# Altium schematic symbol library Schlib1.SchLib: 168 symbols (part 4 of 4)
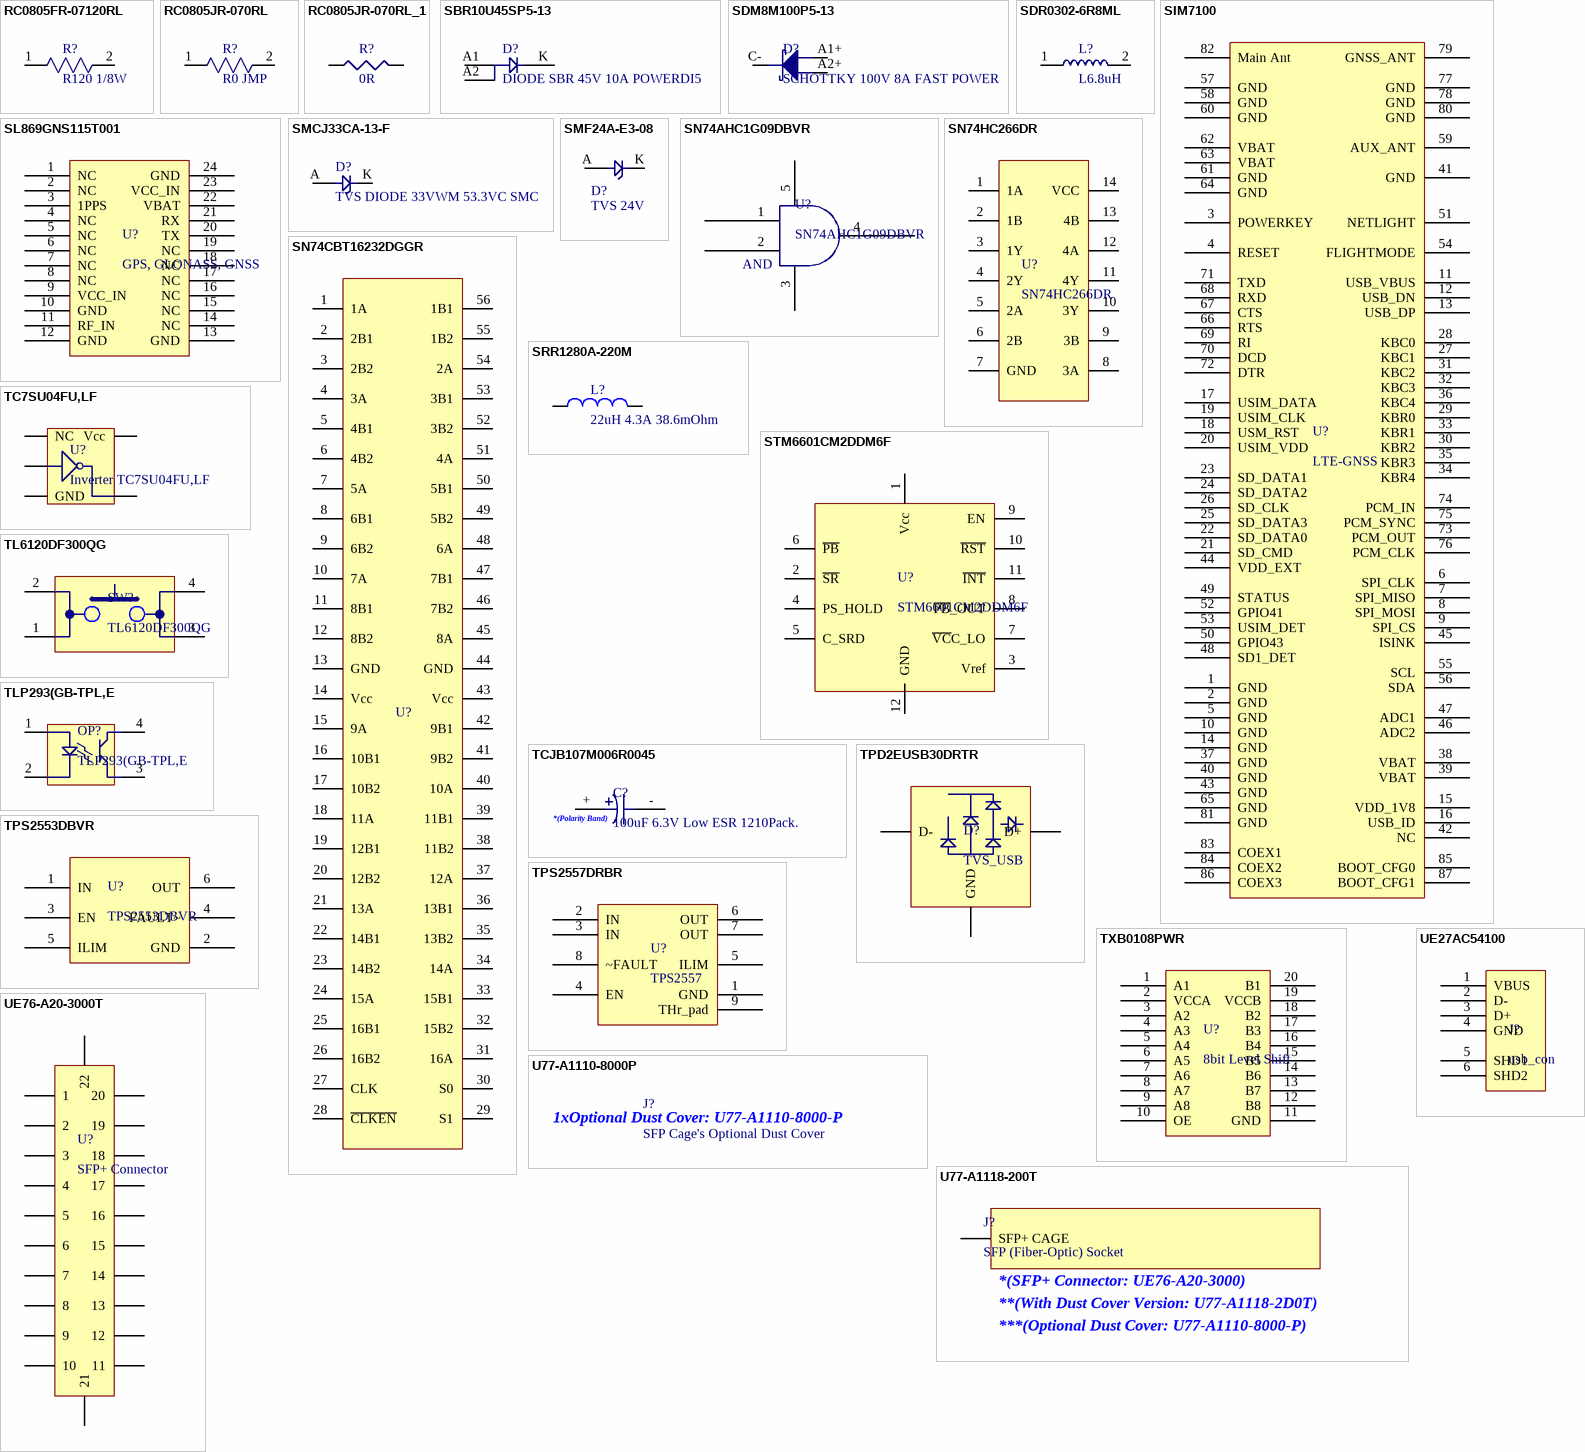
[diagram p8: symbols RC0805FR-07120RL to UE76-A20-3000T]

## STM6601CM2DDM6F
designator U?
IC SUPERVISOR 3.1V 12TDFN; Manufacturer: STMicroelectronics; Output: Open Drain or Open Collector; Reset: Active Low; Reset Timeout: 240 ms Minimum; Supplier 1: Digi-Key; Manufacturer Part Number: STM6601CM2DDM6F; RoHS: RoHS Compliant; Category: Integrated Circuits (ICs); Stock 1: 3614; Pricing 1: 1=1.56, 10=1.392, 100=1.085, 500=0.8963, 1000=0.70761 (USD); Packaging: Cut Tape (CT); Part Status: Active; Type: Smart ON/OFF Controller; Voltage - Threshold: 3.1V; Operating Temperature: -40°C ~ 85°C (TA); Mounting Type: Surface Mount; Package / Case: 12-WFDFN; Supplier Device Package: 12-TDFN (2x3); Base Part Number: STM6601; ComponentLink1URL: http://www.st.com/content/ccc/resource/technical/document/datasheet/1f/9e/3b/43/ec/04/44/71/CD00226957.pdf/files/CD00226957.pdf/jcr:content/translations/en.CD00226957.pdf; ComponentLink1Description: http://www.st.com/content/ccc/resource/technical/document/datasheet/1f/9e/3b/43/ec/04/44/71/CD00226957.pdf/files/CD00226957.pdf/jcr:content/translations/en.CD00226957.pdf; Supplier Part Number 1: 497-10132-1-ND
footprint STM6601CM2DDM6F_SON50P200X80-12N (SON, 12-Leads, Body 3.00x2.00mm, Pitch 0.50mm, IPC Medium Density)
pins: 1 Vcc, 2 ~{SR}, 3 Vref, 4 PS_HOLD, 5 C_SRD, 6 ~{PB}, 7 ~{VC}C_LO, 8 ~{PB}_OUT, 9 EN, 10 ~{RST}, 11 ~{INT}, 12 GND

## TC7SU04FU,LF
designator U?, comment Inverter TC7SU04FU,LF
IC INVERTER HS C2MOS SSOP5; Manufacturer: Toshiba Semiconductor and Storage; Number of Circuits: 1; Voltage - Supply: 2 V ~ 6 V; Current - Quiescent (Max): 1µA; Current - Output High, Low: 2.6mA, 2.6mA; Logic Level - Low: 0.3 V ~ 1.2 V; Logic Level - High: 1.7 V ~ 4.8 V; Max Propagation Delay @ V, Max CL: 17ns @ 6V, 50pF; Supplier 1: Digi-Key; Manufacturer Part Number: TC7SU04FU,LF; RoHS: RoHS Compliant; Category: Integrated Circuits (ICs); Stock 1: 4395; Pricing 1: 1=0.46, 10=0.334, 25=0.2596, 100=0.1965, 250=0.13904, 500=0.11124, 1000=0.08528 (USD); Packaging: Cut Tape (CT); Part Status: Active; Logic Type: Inverter; Number of Inputs: 1; Features: -; Operating Temperature: -40°C ~ 85°C; Mounting Type: Surface Mount; Supplier Device Package: USV; Package / Case: 5-TSSOP, SC-70-5, SOT-353; ComponentLink1URL: http://toshiba.semicon-storage.com/info/docget.jsp?did=20190&prodName=TC7SU04FU; ComponentLink1Description: http://toshiba.semicon-storage.com/info/docget.jsp?did=20190&prodName=TC7SU04FU; Supplier Part Number 1: TC7SU04FULFCT-ND
footprint TC7SU04FU,LF_SOP127P600-8N (Inverter TC7SU04FU,LF)
pins: 1 NC, 2 IN_A, 3 GND, 4 OUT_Y, 5 Vcc

## TCJB107M006R0045
designator C?, comment 100uF 6.3V Low ESR 1210Pack.
CAP TANT POLY 100UF 6.3V 1210; Manufacturer: AVX Corporation; Manufacturer Part Number: TCJB107M006R0045; Manufacturer Size Code: B; Tolerance: ±20%; Type: Molded; ESR (Equivalent Series Resistance): 45 mOhm; Lifetime @ Temp.: 2000 Hrs @ 105°C; Notification: Current market demand for these product types have resulted in fluctuating and extending lead times. Lead times may differ.; Supplier 1: Digi-Key; RoHS: RoHS Compliant; Category: Capacitors; Stock 1: 7829; Pricing 1: 1=1.11, 10=0.844, 100=0.6036, 500=0.4673, 1000=0.4024 (USD); Packaging: Cut Tape (CT); Part Status: Active; Operating Temperature: -55°C ~ 105°C; Mounting Type: Surface Mount; Package / Case: 1411 (3528 Metric), 1210; Size / Dimension: 0.138" L x 0.110" W (3.50mm x 2.80mm); Height - Seated (Max): 0.083" (2.10mm); Lead Spacing: -; Ratings: -; Features: General Purpose; ComponentLink1URL: http://datasheets.avx.com/TCJ.pdf; ComponentLink1Description: http://datasheets.avx.com/TCJ.pdf; Supplier Part Number 1: 478-4711-1-ND
footprint C1210_Original3D (Chip Capacitor, 2-Leads, Body 3.50x2.80mm, IPC Medium Density)
pins: + Anode (+), - Cathode (-)
text: *(Polarity Band)

## TL6120DF300QG
designator SW?
SWITCH TACTILE SPST-NO 0.05A 50V; Manufacturer: E-Switch; Switch Function: Off-Mom; Contact Rating @ Voltage: 0.05A @ 50VDC; Actuator Type: Standard; Actuator Height off PCB, Vertical: 10.00mm; Actuator Orientation: Top Actuated; Outline: 7.40mm x 7.40mm; Illumination: Non-Illuminated; Operating Force: 300gf; Actuator Material: Polyamide (PA), Nylon; Switch Travel: 0.50mm; Mechanical Life: 500,000 Cycles; Supplier 1: Digi-Key; Manufacturer Part Number: TL6120DF300QG; RoHS: RoHS Compliant; Category: Switches; Stock 1: 11822; Pricing 1: 1=0.87, 10=0.834, 25=0.7864, 50=0.6922, 100=0.6292 (USD); Packaging: Digi-Reel®; Part Status: Active; Circuit: SPST-NO; Mounting Type: Surface Mount; Actuator Length, Right Angle: -; Termination Style: Gull Wing; Illumination Type, Color: -; Illumination Voltage (Nominal): -; Ingress Protection: -; Features: -; Operating Temperature: -40°C ~ 85°C; ComponentLink1URL: http://spec_sheets.e-switch.com/specs/T351506.pdf; ComponentLink1Description: http://spec_sheets.e-switch.com/specs/T351506.pdf; Supplier Part Number 1: EG4356DKR-ND
footprint Tactile Switch_TL6120DF300QG_SOP400P1000X380-4N (SOP, 4-Leads, Body 7.40x7.40mm, Pitch 4.00mm, IPC Medium Density)
pins: 1, 2, 3, 4

## TLP293(GB-TPL,E
designator OP?
OPTOISOLATOR 3.75KV TRANS 4-SO; Manufacturer: Toshiba Semiconductor and Storage; Number of Channels: 1; Voltage - Isolation: 3750Vrms; Current Transfer Ratio (Min): 100% @ 5mA; Current Transfer Ratio (Max): 600% @ 5mA; Turn On / Turn Off Time (Typ): 3µs, 3µs; Rise / Fall Time (Typ): 2µs, 3µs; Input Type: DC; Output Type: Transistor; Voltage - Output (Max): 80V; Current - Output / Channel: 50mA; Voltage - Forward (Vf) (Typ): 1.25V; Vce Saturation (Max): 300mV; Supplier 1: Digi-Key; Manufacturer Part Number: TLP293(GB-TPL,E; RoHS: RoHS Compliant; Category: Isolators; Stock 1: 33505; Pricing 1: 1=0.52, 10=0.377, 25=0.308, 100=0.2464, 250=0.20792, 500=0.1771, 1000=0.1386 (USD); Packaging: Cut Tape (CT); Current - DC Forward (If) (Max): 50mA; Operating Temperature: -55°C ~ 125°C; Mounting Type: Surface Mount; Package / Case: 4-SOIC (0.179", 4.55mm); Supplier Device Package: 4-SO; ComponentLink1URL: https://toshiba.semicon-storage.com/info/docget.jsp?did=14419&prodName=TLP293; ComponentLink1Description: https://toshiba.semicon-storage.com/info/docget.jsp?did=14419&prodName=TLP293; Supplier Part Number 1: TLP293(GB-TPLECT-ND
footprint TLP293-SO4
pins: 1 +, 2 -, 3 E, 4 C

## TPD2EUSB30DRTR
designator D?, comment TVS_USB
TVS DIODE 5.5VWM 8VC SOT3; Manufacturer: Texas Instruments; Manufacturer Part Number: TPD2EUSB30DRTR; Type: Steering (Rail to Rail); Bidirectional Channels: 2; Voltage - Reverse Standoff (Typ): 5.5V (Max); Voltage - Breakdown (Min): 7V; Voltage - Clamping (Max) @ Ipp: 8V; Current - Peak Pulse (10/1000µs): 1A (8/20µs); Power - Peak Pulse: 45W; Power Line Protection: Yes; Supplier 1: Digi-Key; RoHS: RoHS Compliant; Category: Circuit Protection; Stock 1: 93541; Pricing 1: 1=0.58, 10=0.495, 100=0.3699, 500=0.29056, 1000=0.224 (USD); Packaging: Cut Tape (CT); Unidirectional Channels: -; Applications: General Purpose; Capacitance @ Frequency: -; Operating Temperature: -40°C ~ 85°C (TA); Mounting Type: Surface Mount; Package / Case: SOT-3; Supplier Device Package: SOT-3; ComponentLink1URL: http://www.ti.com/lit/ds/symlink/tpd2eusb30.pdf; ComponentLink1Description: http://www.ti.com/lit/ds/symlink/tpd2eusb30.pdf; Supplier Part Number 1: 296-25509-1-ND
footprint SOT3_SOTFL35P100X50-3N (SOTFL, 3-Leads, Body 1.00x1.00mm, Pitch 0.35mm, IPC Medium Density)
pins: D+, D-, GND

## TPS2553DBVR
designator U?
IC PWR DIST SWITCH ADJ SOT23-6; Manufacturer: Texas Instruments; Switch Type: General Purpose; Number of Outputs: 1; Ratio - Input:Output: 1:1; Output Configuration: High Side; Output Type: N-Channel; Interface: On/Off; Voltage - Load: 2.5 V ~ 6.5 V; Voltage - Supply (Vcc/Vdd): Not Required; Current - Output (Max): 1.5A; Rds On (Typ): 85 mOhm; Input Type: Non-Inverting; Fault Protection: Current Limiting (Adjustable), Over Temperature, UVLO; Supplier 1: Digi-Key; Manufacturer Part Number: TPS2553DBVR; RoHS: RoHS Compliant; Category: Integrated Circuits (ICs); Stock 1: 20525; Pricing 1: 1=1.94, 10=1.742, 100=1.3972, 500=1.1484, 1000=0.95062 (USD); Packaging: Cut Tape (CT); Features: Slew Rate Controlled, Status Flag; Operating Temperature: -40°C ~ 150°C (TJ); Package / Case: SOT-23-6; Supplier Device Package: SOT-23-6; ComponentLink1URL: http://www.ti.com/lit/ds/symlink/tps2552.pdf; ComponentLink1Description: http://www.ti.com/lit/ds/symlink/tps2552.pdf; Supplier Part Number 1: 296-32464-1-ND
footprint PDSO6
pins: 1 IN, 2 GND, 3 EN, 4 FAULT~, 5 ILIM, 6 OUT

## TPS2557DRBR
designator U?, comment TPS2557
IC PWR DIST SWITCH ADJ 8SON; Manufacturer: Texas Instruments; Manufacturer Part Number: TPS2557DRBR; Switch Type: General Purpose; Number of Outputs: 1; Ratio - Input:Output: 1:1; Output Configuration: High Side; Output Type: N-Channel; Interface: On/Off; Voltage - Load: 2.5 V ~ 6.5 V; Voltage - Supply (Vcc/Vdd): Not Required; Current - Output (Max): 5A; Rds On (Typ): 22 mOhm; Input Type: Non-Inverting; Fault Protection: Current Limiting (Adjustable), Over Temperature, UVLO; Supplier 1: Digi-Key; RoHS: RoHS Compliant; Category: Integrated Circuits (ICs); Stock 1: 6252; Pricing 1: 1=2.46, 10=2.211, 100=1.7739, 500=1.458, 1000=1.0125 (USD); Packaging: Cut Tape (CT); Features: Slew Rate Controlled, Status Flag; Operating Temperature: -40°C ~ 125°C (TJ); Package / Case: 8-VDFN Exposed Pad; Supplier Device Package: 8-SON Exposed Pad (3x3); ComponentLink1URL: http://www.ti.com/lit/ds/symlink/tps2557.pdf; ComponentLink1Description: http://www.ti.com/lit/ds/symlink/tps2557.pdf; Supplier Part Number 1: 296-37669-1-ND
footprint PVSON-8
pins: 1 GND, 2 IN, 3 IN, 4 EN, 5 ILIM, 6 OUT, 7 OUT, 8 ~FAULT, 9 THr_pad

## TXB0108PWR
designator U?, comment 8bit Level Shift
IC 8-BIT TRNSTR 15KV ESD 20TSSOP; Manufacturer: Texas Instruments; Manufacturer Part Number: TXB0108PWR; Translator Type: Voltage Level; Channel Type: Bidirectional; Number of Circuits: 1; Channels per Circuit: 8; Voltage - VCCA: 1.2 V ~ 3.6 V; Voltage - VCCB: 1.65 V ~ 5.5 V; Output Type: Tri-State, Non-Inverted; Data Rate: 100Mbps; Supplier 1: Digi-Key; RoHS: RoHS Compliant; Category: Integrated Circuits (ICs); Stock 1: 26395; Pricing 1: 1=1.88, 10=1.693, 100=1.3578, 500=1.116, 1000=0.775 (USD); Packaging: Cut Tape (CT); Part Status: Active; Input Signal: -; Output Signal: -; Operating Temperature: -40°C ~ 85°C (TA); Features: Auto-Direction Sensing; Mounting Type: Surface Mount; Package / Case: 20-TSSOP (0.173", 4.40mm Width); Supplier Device Package: 20-TSSOP; ComponentLink1URL: http://www.ti.com/lit/ds/symlink/txb0108.pdf; ComponentLink1Description: http://www.ti.com/lit/ds/symlink/txb0108.pdf; Supplier Part Number 1: 296-21527-1-ND
footprint PW-SOP20
pins: 1 A1, 2 VCCA, 3 A2, 4 A3, 5 A4, 6 A5, 7 A6, 8 A7, 9 A8, 10 OE, 11 GND, 12 B8, 13 B7, 14 B6, 15 B5, 16 B4, 17 B3, 18 B2, 19 VCCB, 20 B1

## U77-A1110-8000P
designator J?, comment SFP Cage's Optional Dust Cover
CONN SFP DUST COVER - PLASTIC; Manufacturer: Amphenol Commercial Products; Manufacturer Part Number: U77-A1110-8000P; Accessory Type: Cap (Cover), Dust; Supplier 1: Digi-Key; RoHS: RoHS Compliant; Category: Connectors, Interconnects; Stock 1: 16535; Pricing 1: 1=0.13, 10=0.123, 25=0.0912, 50=0.0784, 100=0.0757, 250=0.06524, 500=0.06264, 1000=0.05481, 2500=0.04959 (USD); Part Status: Active; For Use With/Related Products: SFP Cage; ComponentLink1URL: https://www.amphenolcanada.com/ProductSearch/drawings/AC/U77A11108000P.pdf; ComponentLink1Description: https://www.amphenolcanada.com/ProductSearch/drawings/AC/U77A11108000P.pdf; Supplier Part Number 1: U77-A1110-8000P-ND
text: 1xOptional Dust Cover: U77-A1110-8000-P

## U77-A1118-200T
designator J?, comment SFP (Fiber-Optic) Socket
CONN SFP SGL CAGE PRESSFIT NICKL; Manufacturer: Amphenol Commercial Products; Manufacturer Part Number: U77-A1118-200T; Supplier 1: Digi-Key; RoHS: RoHS Compliant; Category: Connectors, Interconnects; Stock 1: 15237; Pricing 1: 1=1.63, 10=1.475, 25=1.3844, 50=1.3242 (USD); Packaging: Cut Tape (CT); Part Status: Active; Connector Style: Cage; Connector Type: SFP; Number of Positions: -; Mounting Type: Through Hole, Right Angle; Termination: Press-Fit; Features: EMI Shielded; Contact Finish: -; Contact Finish Thickness: -; ComponentLink1URL: https://www.amphenolcanada.com/ProductSearch/drawings/AC/U77A1118xx0x.pdf; ComponentLink1Description: https://www.amphenolcanada.com/ProductSearch/drawings/AC/U77A1118xx0x.pdf; Supplier Part Number 1: U77-A1118-200TCT-ND
footprint SFP+20_CAGE
pins: DH SFP+ CAGE
text: *(SFP+ Connector: UE76-A20-3000); **(With Dust Cover Version: U77-A1118-2D0T); ***(Optional Dust Cover: U77-A1110-8000-P)

## UE27AC54100
designator J?, comment usb_con
CONN RCPT USB TYPE A R/A GOLD; Manufacturer: Amphenol Commercial Products; Manufacturer Part Number: UE27AC54100; Connector Type: USB - A; Number of Contacts: 4; Gender: Receptacle; Specifications: USB 2.0; Supplier 1: Digi-Key; RoHS: RoHS Compliant; Category: Connectors, Interconnects; Stock 1: 20642; Pricing 1: 1=0.4, 10=0.378, 25=0.3404, 50=0.3024, 100=0.2898, 250=0.2646, 500=0.252, 1000=0.2079, 2500=0.189 (USD); Packaging: Tray; Mounting Type: Through Hole, Right Angle, Horizontal; Features: Board Guide; Ingress Protection: -; ComponentLink1URL: https://www.amphenolcanada.com/ProductSearch/drawings/AC/UE27ACX4X0X.pdf; ComponentLink1Description: https://www.amphenolcanada.com/ProductSearch/drawings/AC/UE27ACX4X0X.pdf; Supplier Part Number 1: UE27AC54100-ND
footprint USB_typeA
pins: 1 VBUS, 2 D-, 3 D+, 4 GND, 5 SHD1, 6 SHD2

## UE76-A20-3000T
designator U?, comment SFP+ Connector
CONN SFP+ RCPT 20PS R/A SMD GOLD; Manufacturer: Amphenol Commercial Products; Manufacturer Part Number: UE76-A20-3000T; Connector Style: Receptacle; Number of Positions: 20; Supplier 1: Digi-Key; RoHS: RoHS Compliant; Category: Connectors, Interconnects; Stock 1: 11451; Pricing 1: 1=1.21, 10=1.068, 25=1.0052, 50=0.9632, 100=0.9213, 250=0.83756 (USD); Packaging: Cut Tape (CT); Part Status: Active; Connector Type: SFP+; Mounting Type: Surface Mount, Right Angle; Termination: Solder; Features: Board Guide; Contact Finish: Gold; Contact Finish Thickness: 30.0µin (0.76µm); ComponentLink1URL: https://media.digikey.com/pdf/Data%20Sheets/Amphenol%20PDFs/Ux76-A20-x00xx.pdf; ComponentLink1Description: https://media.digikey.com/pdf/Data%20Sheets/Amphenol%20PDFs/Ux76-A20-x00xx.pdf; Supplier Part Number 1: UE76-A20-3000TCT-ND
footprint SFP+20_Connector
pins: 1, 2, 3, 4, 5, 6, 7, 8, 9, 10, 11, 12, 13, 14, 15, 16, 17, 18, 19, 20, 21, 22

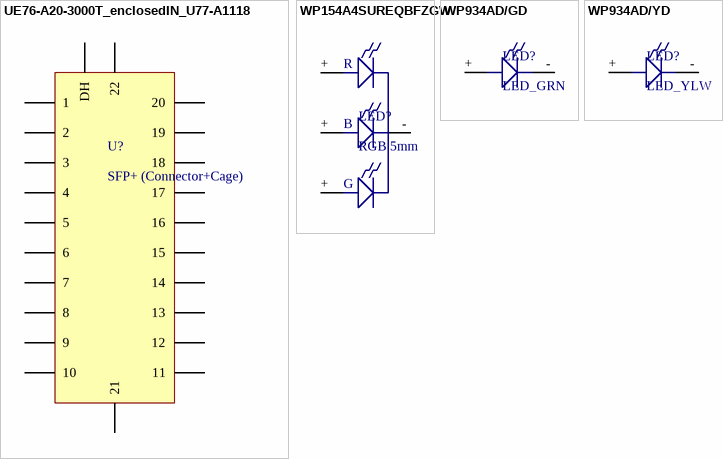
[diagram p5: symbols UE76-A20-3000T_enclosedIN_U77-A1118 to WP934AD/YD]

## UE76-A20-3000T_enclosedIN_U77-A1118
designator U?, comment SFP+ (Connector+Cage)
CONN SFP+ RCPT 20PS R/A SMD GOLD; Manufacturer: Amphenol Commercial Products; Manufacturer Part Number: UE76-A20-3000T; Connector Style: Receptacle; Number of Positions: 20; Supplier 1: Digi-Key; RoHS: RoHS Compliant; Category: Connectors, Interconnects; Stock 1: 11451; Pricing 1: 1=1.21, 10=1.068, 25=1.0052, 50=0.9632, 100=0.9213, 250=0.83756 (USD); Packaging: Cut Tape (CT); Part Status: Active; Connector Type: SFP+; Mounting Type: Surface Mount, Right Angle; Termination: Solder; Features: Board Guide; Contact Finish: Gold; Contact Finish Thickness: 30.0µin (0.76µm); ComponentLink1URL: https://media.digikey.com/pdf/Data%20Sheets/Amphenol%20PDFs/Ux76-A20-x00xx.pdf; ComponentLink1Description: https://media.digikey.com/pdf/Data%20Sheets/Amphenol%20PDFs/Ux76-A20-x00xx.pdf; Supplier Part Number 1: UE76-A20-3000TCT-ND
footprint SFP+20_CAGE + Connector
pins: 1, 2, 3, 4, 5, 6, 7, 8, 9, 10, 11, 12, 13, 14, 15, 16, 17, 18, 19, 20, 21, 22, DH

## WP154A4SUREQBFZGW
designator LED?, comment RGB 5mm
LED RGB DIFF 5MM ROUND T/H; Manufacturer: Kingbright; Manufacturer Part Number: WP154A4SUREQBFZGW; Color: Red, Green, Blue (RGB); Lens Color: White; Lens Transparency: Diffused; Millicandela Rating: 250mcd Red, 1300mcd Green, 500mcd Blue; Lens Style/Size: Round with Domed Top, 5mm (T-1 3/4), 5.00mm; Voltage - Forward (Vf) (Typ): 1.9V Red, 3.3V Green, 3.3V Blue; Current - Test: 20mA Red, 20mA Green, 20mA Blue; Viewing Angle: 60°; Wavelength - Dominant: 630nm Red, 525nm Green, 465nm Blue; Wavelength - Peak: 640nm Red, 515nm Green, 460nm Blue; Supplier 1: Digi-Key; RoHS: RoHS Compliant; Category: Optoelectronics; Stock 1: 10100; Pricing 1: 1=1.78, 10=1.575, 25=1.1684, 100=1.016, 250=0.9144, 500=0.8128, 1000=0.6985, 2500=0.6604, 5000=0.635 (USD); Packaging: Bulk; Mounting Type: Through Hole; Features: -; Package / Case: Radial - 4 Leads; Supplier Device Package: T-1 3/4; Size / Dimension: -; Height (Max): 8.60mm; ComponentLink1URL: http://www.kingbrightusa.com/images/catalog/SPEC/WP154A4SUREQBFZGW.pdf; ComponentLink1Description: http://www.kingbrightusa.com/images/catalog/SPEC/WP154A4SUREQBFZGW.pdf; Supplier Part Number 1: 754-1492-ND
pins: + 1, + 3, + 4, - 2
text: R; B; G

## WP934AD/GD
designator LED?, comment LED_GRN
GREEN RIGHT ANGLE LED INDICATOR; Manufacturer: Kingbright; Manufacturer Part Number: WP934AD/GD; Wavelength - Peak: 568nm; Configuration: Single; Current: 25mA; Millicandela Rating: 25mcd; Viewing Angle: 40°; Lens Type: Diffused, Tinted; Lens Style/Size: Round with Domed Top, 2.90mm; Voltage Rating: 2V; Supplier 1: Digi-Key; RoHS: RoHS Compliant; Category: Optoelectronics; Stock 1: 100; Pricing 1: 1=0.41, 10=0.294, 25=0.24, 100=0.192, 250=0.162, 500=0.138, 1000=0.108 (USD); Packaging: *; Color: Green; Mounting Type: *; ComponentLink1URL: http://www.kingbrightusa.com/images/catalog/SPEC/WP934AD-GD.pdf; ComponentLink1Description: http://www.kingbrightusa.com/images/catalog/SPEC/WP934AD-GD.pdf; Supplier Part Number 1: 754-1986-ND
pins: + 1, - 2

## WP934AD/YD
designator LED?, comment LED_YLW
YELLOW RIGHT ANGLE LED INDICATOR; Manufacturer: Kingbright; Manufacturer Part Number: WP934AD/YD; Wavelength - Peak: 588nm; Configuration: Single; Current: 30mA; Millicandela Rating: 15mcd; Viewing Angle: 40°; Lens Type: Diffused, Tinted; Lens Style/Size: Round with Domed Top, 2.90mm; Voltage Rating: 1.95V; Supplier 1: Digi-Key; RoHS: RoHS Compliant; Category: Optoelectronics; Stock 1: 100; Pricing 1: 1=0.48, 10=0.343, 25=0.28, 100=0.224, 250=0.189, 500=0.161, 1000=0.126 (USD); Packaging: *; Color: Yellow; Mounting Type: *; ComponentLink1URL: http://www.kingbrightusa.com/images/catalog/SPEC/WP934AD-YD.pdf; ComponentLink1Description: http://www.kingbrightusa.com/images/catalog/SPEC/WP934AD-YD.pdf; Supplier Part Number 1: 754-1985-ND
pins: + 1, - 2